# Altium schematic symbol library Mini_sys.SchLib: 10 symbols
Pins are listed as number, name and electrical type; pins without a type are passive.

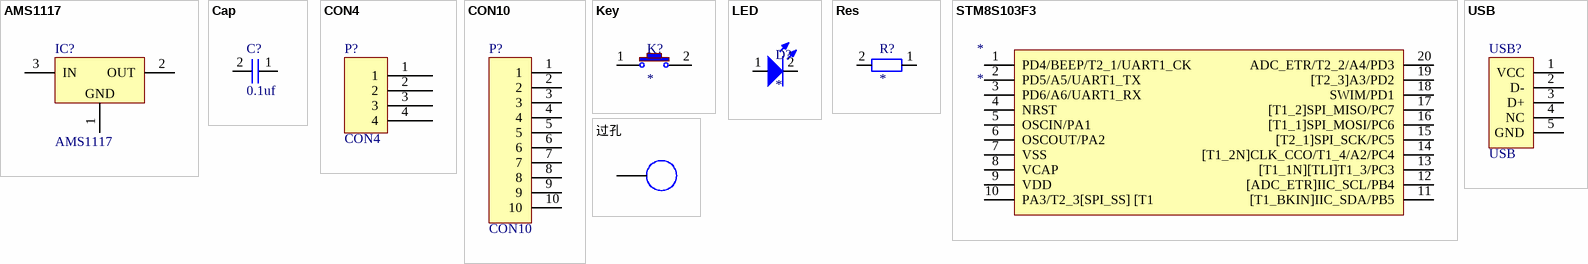
[diagram p0: symbols AMS1117 to 过孔]

## AMS1117
designator IC?
footprint SOT223_N (6.4x7x1.6mm(长宽高))
pins: 1 GND, 2 OUT, 3 IN

## Cap
designator C?, comment 0.1uf
电容
footprint C0603 (Footprint not found)
pins: 1, 2

## CON4
designator P?
footprint HDR2.54-WI-4P (Footprint not found)
pins: 1, 2, 3, 4

## CON10
designator P?
插针
footprint HDR2.54-LI-10P (排针，17脚)
pins: 1, 2, 3, 4, 5, 6, 7, 8, 9, 10

## Key
designator K?
按键
pins: 1, 2

## LED
designator D?
LED
pins: 1 3, 2

## Res
designator R?
电阻
footprint R 0603 (贴片带丝印)
pins: 1, 2

## STM8S103F3
designator *
pins: 1 PD4/BEEP/T2_1/UART1_CK, 2 PD5/A5/UART1_TX, 3 PD6/A6/UART1_RX, 4 NRST, 5 OSCIN/PA1, 6 OSCOUT/PA2, 7 VSS, 8 VCAP, 9 VDD, 10 PA3/T2_3[SPI_SS] [T1, 11 [T1_BKIN]IIC_SDA/PB5, 12 [ADC_ETR]IIC_SCL/PB4, 13 [T1_1N][TLI]T1_3/PC3, 14 [T1_2N]CLK_CCO/T1_4/A2/PC4, 15 [T2_1]SPI_SCK/PC5, 16 [T1_1]SPI_MOSI/PC6, 17 [T1_2]SPI_MISO/PC7, 18 SWIM/PD1, 19 [T2_3]A3/PD2, 20 ADC_ETR/T2_2/A4/PD3

## USB
designator USB?
footprint USB-MICRO_E (Footprint not found)
pins: 1 VCC, 2 D-, 3 D+, 4 NC, 5 GND

## 过孔
designator O?  (value not drawn)
footprint 过孔
pins: 0